# EAGLE library part DELL_POWER (library sc_usercreated)
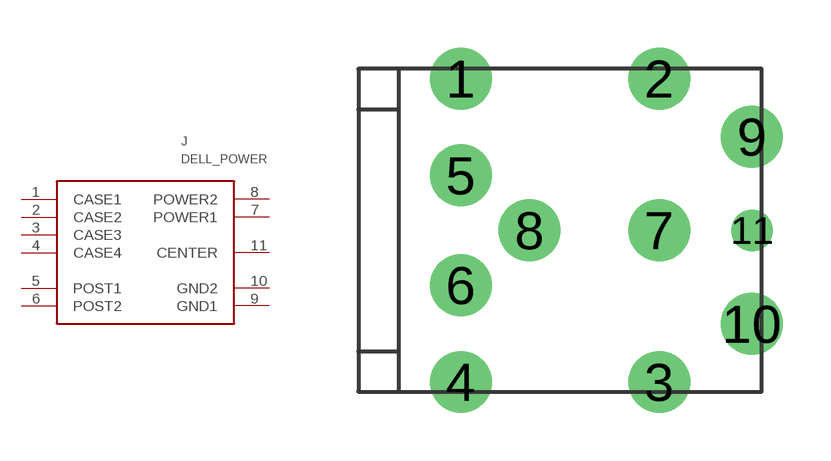
[diagram p7: symbol with the pads of DELL_POWER; footprint DELL_POWER]

Designator prefix J

## DELL_POWER  [DELL_POWER]
1  CASE1
2  CASE2
3  CASE3
4  CASE4
5  POST1
6  POST2
7  POWER1
8  POWER2
9  GND1
10  GND2
11  CENTER

## Footprint DELL_POWER (pad centres in mm)
drill 1.3 round: 1 -3.124,4.775; 2 3.124,4.775; 3 3.124,-4.775; 4 -3.124,-4.775; 5 -3.124,1.727; 6 -3.124,-1.727; 7 3.124,0; 8 -0.965,0; 9 6.045,2.946; 10 6.045,-2.946
drill 0.8 round: 11 6.045,0